# Altium integrated library NSC Interface.IntLib: 504 symbols (part 12 of 16)
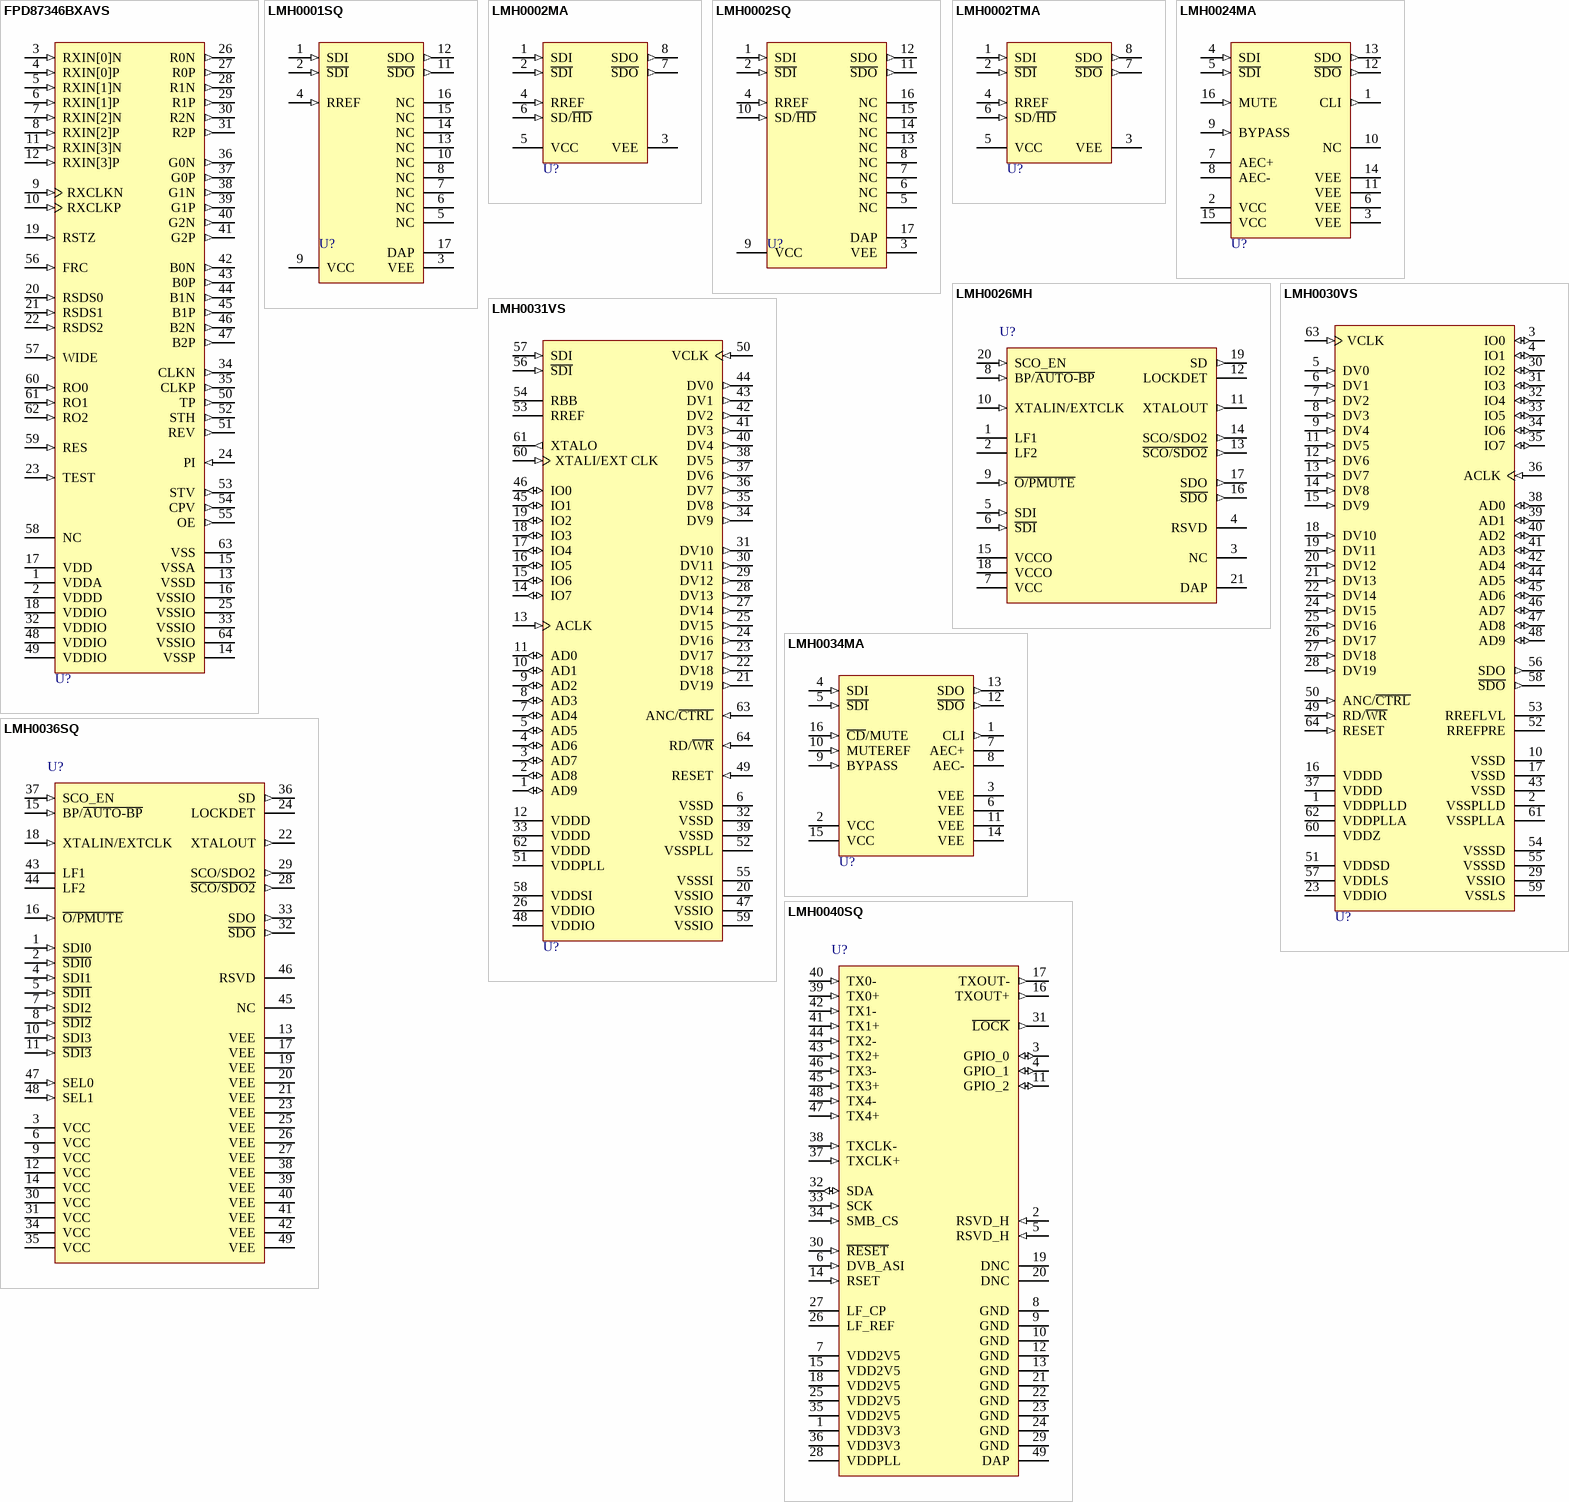
[diagram p52: symbols FPD87346BXAVS to LMH0040SQ]

## LMH0034MA
designator U?
LMH0034 SMPTE 292M / 259M Adaptive Cable Equalizer; PartNumber: LMH0034MA; Manufacturer: National Semiconductor; CompType: Interface IC; PackageTopMarking: NSUZXYTT*L034; PowerWise: N; Published: 4-Dec-2008; DatasheetVersion: Jun-2007; PackageVersion: revJ, Aug-1995; PackageReference: M16A; Publisher: Altium Limited; PackageDescription: Molded Package, S.O., .150in Wide, 16 Lead; RoHS: O; PinCount: 16; DigiKeyPartNumber: LMH0034MA-ND; Code_JEDEC: MS-012-AC; Code_IPC: SOIC127P600-16; ComponentLink1Description: LMH0034 Datasheet; ComponentLink1URL: http://www.national.com/ds/LM/LMH0034.pdf; ComponentLink2Description: LMH0034 Web Page; ComponentLink2URL: http://www.national.com/pf/LM/LMH0034.html; ComponentLink3Description: M16A Package Page; ComponentLink3URL: http://www.national.com/packaging/folders/m16a.html
footprint M16A_N (SOIC, 16-Leads, Body 9.9x3.9mm, Pitch 1.27mm, IPC Medium Density)
footprint M16A_L (SOIC, 16-Leads, Body 9.9x3.9mm, Pitch 1.27mm, IPC High Density)
footprint M16A_M (SOIC, 16-Leads, Body 9.9x3.9mm, Pitch 1.27mm, IPC Low Density)
pins: 1 CLI (out), 2 VCC (power), 3 VEE (power), 4 SDI (in), 5 ~{SDI} (in), 6 VEE (power), 7 AEC+, 8 AEC-, 9 BYPASS (in), 10 MUTEREF (in), 11 VEE (power), 12 ~{SDO} (out), 13 SDO (out), 14 VEE (power), 15 VCC (power), 16 ~{CD}/MUTE (in)

## LMH0036SQ
designator U?
SD SDI Reclocker with 4:1 Input Multiplexer; PartNumber: LMH0036SQ; Manufacturer: National Semiconductor; CompType: Interface IC; PackageTopMarking: NS*UZXYTT*XL036; PowerWise: N; Published: 4-Dec-2008; DatasheetVersion: Aug-2008; PackageVersion: revA, May-2003; PackageReference: SQA48A; Publisher: Altium Limited; RoHS: Y; PinCount: 48; Code_JEDEC: MO-220-WKKD-2; ComponentLink1Description: LMH0036 Datasheet; ComponentLink1URL: http://www.national.com/ds/LM/LMH0036.pdf; ComponentLink2Description: LMH0036 Web Page; ComponentLink2URL: http://www.national.com/pf/LM/LMH0036.html; ComponentLink3Description: SQA48A Package Page; ComponentLink3URL: http://www.national.com/packaging/folders/sqa48a.html
footprint SQA48A (QFN, 48-Leads, Body 7x7mm, Pitch 0.5mm, NSC Recommended)
pins: 1 SDI0 (in), 2 ~{SDI0} (in), 3 VCC (power), 4 SDI1 (in), 5 ~{SDI1} (in), 6 VCC (power), 7 SDI2 (in), 8 ~{SDI2} (in), 9 VCC (power), 10 SDI3 (in), 11 ~{SDI3} (in), 12 VCC (power), 13 VEE (power), 14 VCC (power), 15 BP/~{AUTO-BP} (in), 16 ~{O/PMUTE} (in), 17 VEE (power), 18 XTALIN/EXTCLK (in), 19 VEE (power), 20 VEE (power), 21 VEE (power), 22 XTALOUT (out), 23 VEE (power), 24 LOCKDET, 25 VEE (power), 26 VEE (power), 27 VEE (power), 28 ~{SCO/SDO2} (out), 29 SCO/SDO2 (out), 30 VCC (power), 31 VCC (power), 32 ~{SDO} (out), 33 SDO (out), 34 VCC (power), 35 VCC (power), 36 SD (out), 37 SCO_EN (in), 38 VEE (power), 39 VEE (power), 40 VEE (power), 41 VEE (power), 42 VEE (power), 43 LF1, 44 LF2, 45 NC, 46 RSVD, 47 SEL0 (in), 48 SEL1 (in), 49 VEE (power)

## LMH0040SQ
designator U?
HD, SD, DVB-ASI SDI Serializer and Driver with LVDS Interface; PartNumber: LMH0040SQ; Manufacturer: National Semiconductor; CompType: Interface IC; PackageTopMarking: NS*UZXYTT*LMH0040; PowerWise: N; Published: 4-Dec-2008; DatasheetVersion: Oct-2008; PackageVersion: revA, May-2003; PackageReference: SQA48A; Publisher: Altium Limited; RoHS: Y; PinCount: 48; DigiKeyPartNumber: LMH0040SQ-ND; Code_JEDEC: MO-220-WKKD-2; ComponentLink1Description: LMH0040 Datasheet; ComponentLink1URL: http://www.national.com/ds/LM/LMH0040.pdf; ComponentLink2Description: LMH0040 Web Page; ComponentLink2URL: http://www.national.com/pf/LM/LMH0040.html; ComponentLink3Description: SQA48A Package Page; ComponentLink3URL: http://www.national.com/packaging/folders/sqa48a.html
footprint SQA48A (QFN, 48-Leads, Body 7x7mm, Pitch 0.5mm, NSC Recommended)
pins: 1 VDD3V3 (power), 2 RSVD_H (in), 3 GPIO_0 (io), 4 GPIO_1 (io), 5 RSVD_H (in), 6 DVB_ASI (in), 7 VDD2V5 (power), 8 GND (power), 9 GND (power), 10 GND (power), 11 GPIO_2 (io), 12 GND (power), 13 GND (power), 14 RSET (in), 15 VDD2V5 (power), 16 TXOUT+ (out), 17 TXOUT- (out), 18 VDD2V5 (power), 19 DNC, 20 DNC, 21 GND (power), 22 GND (power), 23 GND (power), 24 GND (power), 25 VDD2V5 (power), 26 LF_REF, 27 LF_CP, 28 VDDPLL (power), 29 GND (power), 30 ~{RESET} (in), 31 ~{LOCK} (out), 32 SDA (io), 33 SCK (in), 34 SMB_CS (in), 35 VDD2V5 (power), 36 VDD3V3 (power), 37 TXCLK+ (in), 38 TXCLK- (in), 39 TX0+ (in), 40 TX0- (in), 41 TX1+ (in), 42 TX1- (in), 43 TX2+ (in), 44 TX2- (in), 45 TX3+ (in), 46 TX3- (in), 47 TX4+ (in), 48 TX4- (in), 49 DAP (power)

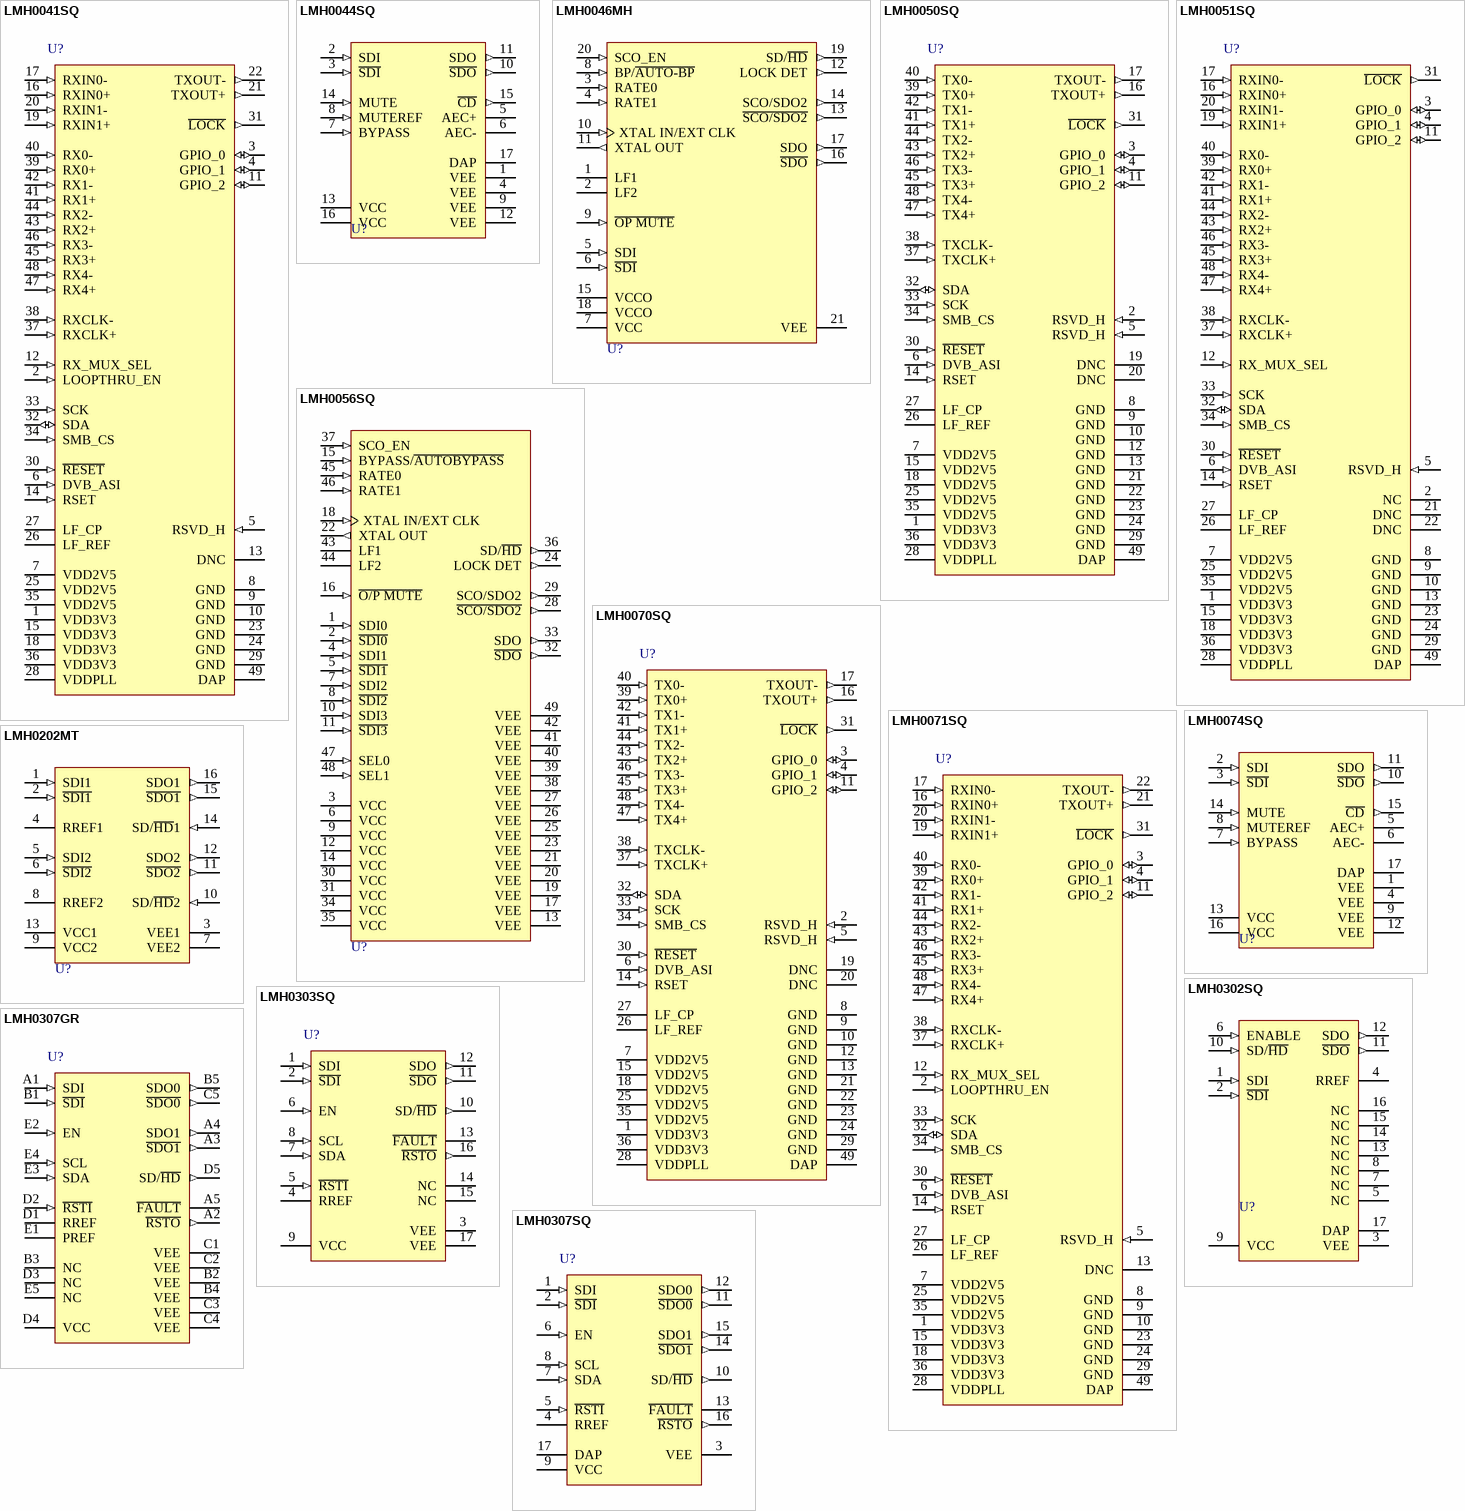
[diagram p30: symbols LMH0041SQ to LMH0307SQ]

## LMH0041SQ
designator U?
HD, SD, DVB-ASI SDI Deserializer with Loopthrough and LVDS Interface; PartNumber: LMH0041SQ; Manufacturer: National Semiconductor; CompType: Interface IC; PackageTopMarking: NS*UZXYTT*LMH0041; PowerWise: N; Published: 4-Dec-2008; DatasheetVersion: Oct-2008; PackageVersion: revA, May-2003; PackageReference: SQA48A; Publisher: Altium Limited; RoHS: Y; PinCount: 48; Code_JEDEC: MO-220-WKKD-2; ComponentLink1Description: LMH0041 Datasheet; ComponentLink1URL: http://www.national.com/ds/LM/LMH0041.pdf; ComponentLink2Description: LMH0041 Web Page; ComponentLink2URL: http://www.national.com/pf/LM/LMH0041.html; ComponentLink3Description: SQA48A Package Page; ComponentLink3URL: http://www.national.com/packaging/folders/sqa48a.html
footprint SQA48A (QFN, 48-Leads, Body 7x7mm, Pitch 0.5mm, NSC Recommended)
pins: 1 VDD3V3 (power), 2 LOOPTHRU_EN (in), 3 GPIO_0 (io), 4 GPIO_1 (io), 5 RSVD_H (in), 6 DVB_ASI (in), 7 VDD2V5 (power), 8 GND (power), 9 GND (power), 10 GND (power), 11 GPIO_2 (io), 12 RX_MUX_SEL (in), 13 DNC, 14 RSET (in), 15 VDD3V3 (power), 16 RXIN0+ (in), 17 RXIN0- (in), 18 VDD3V3 (power), 19 RXIN1+ (in), 20 RXIN1- (in), 21 TXOUT+ (out), 22 TXOUT- (out), 23 GND (power), 24 GND (power), 25 VDD2V5 (power), 26 LF_REF, 27 LF_CP, 28 VDDPLL (power), 29 GND (power), 30 ~{RESET} (in), 31 ~{LOCK} (out), 32 SDA (io), 33 SCK (in), 34 SMB_CS (in), 35 VDD2V5 (power), 36 VDD3V3 (power), 37 RXCLK+ (in), 38 RXCLK- (in), 39 RX0+ (in), 40 RX0- (in), 41 RX1+ (in), 42 RX1- (in), 43 RX2+ (in), 44 RX2- (in), 45 RX3+ (in), 46 RX3- (in), 47 RX4+ (in), 48 RX4- (in), 49 DAP (power)

## LMH0044SQ
designator U?
SMPTE 292M / 259M Adaptive Cable Equalizer; PartNumber: LMH0044SQ; Manufacturer: National Semiconductor; CompType: Interface IC; PackageTopMarking: NS*UZXYTT*L044; PowerWise: N; Published: 4-Dec-2008; DatasheetVersion: Jun-2007; PackageVersion: revA, Dec-2005; PackageReference: SQB16A; Publisher: Altium Limited; PackageDescription: LLP, Plastic, Quad, 4 x 4 x 0.8mm, 16 Lead, 0.65mm Pitch, No Pullback; RoHS: O; PinCount: 16; DigiKeyPartNumber: LMH0044SQTR-ND; ComponentLink1Description: LMH0044 Datasheet; ComponentLink1URL: http://www.national.com/ds/LM/LMH0044.pdf; ComponentLink2Description: LMH0044 Web Page; ComponentLink2URL: http://www.national.com/pf/LM/LMH0044.html; ComponentLink3Description: SQB16A Package Page; ComponentLink3URL: http://www.national.com/packaging/folders/sqb16a.html
footprint SQB16A (QFN, 16-Leads, Body 4x4mm, Pitch 0.65mm, NSC Recommended)
pins: 1 VEE (power), 2 SDI (in), 3 ~{SDI} (in), 4 VEE (power), 5 AEC+, 6 AEC-, 7 BYPASS (in), 8 MUTEREF (in), 9 VEE (power), 10 ~{SDO} (out), 11 SDO (out), 12 VEE (power), 13 VCC (power), 14 MUTE (in), 15 ~{CD} (out), 16 VCC (power), 17 DAP (power)

## LMH0046MH
designator U?
HD/SD SDI Reclocker with Dual Differential Outputs; PartNumber: LMH0046MH; Manufacturer: National Semiconductor; CompType: Interface IC; PackageTopMarking: NSUZXYTT*L046; PowerWise: N; Published: 4-Dec-2008; DatasheetVersion: Apr-2007; PackageVersion: revC, Jul-2006; PackageReference: MXA20A; Publisher: Altium Limited; PackageDescription: Molded TSSOP, Jedec, 6.5 x 4.4 x 0.9mm Body, 20 Lead, 0.65mm Pitch, Exposed Pad; RoHS: Y; PinCount: 20; DigiKeyPartNumber: LMH0046MH-ND; Code_JEDEC: MO-153-ACT; ComponentLink1Description: LMH0046 Datasheet; ComponentLink1URL: http://www.national.com/ds/LM/LMH0046.pdf; ComponentLink2Description: LMH0046 Web Page; ComponentLink2URL: http://www.national.com/pf/LM/LMH0046.html; ComponentLink3Description: MXA20A Package Page; ComponentLink3URL: http://www.national.com/packaging/folders/mxa20a.html
footprint MXA20A_N (TSOP, 20-Leads, Body 6.5x4.4mm, Pitch 0.65mm, Exposed Pad, IPC Medium Density)
footprint MXA20A_L (TSOP, 20-Leads, Body 6.5x4.4mm, Pitch 0.65mm, Exposed Pad, IPC High Density)
footprint MXA20A_M (TSOP, 20-Leads, Body 6.5x4.4mm, Pitch 0.65mm, Exposed Pad, IPC Low Density)
pins: 1 LF1, 2 LF2, 3 RATE0 (in), 4 RATE1 (in), 5 SDI (in), 6 ~{SDI} (in), 7 VCC (power), 8 BP/~{AUTO-BP} (in), 9 ~{OP MUTE} (in), 10 XTAL IN/EXT CLK (in), 11 XTAL OUT (out), 12 LOCK DET (out), 13 ~{SCO/SDO2} (out), 14 SCO/SDO2 (out), 15 VCCO (power), 16 ~{SDO} (out), 17 SDO (out), 18 VCCO (power), 19 SD/~{HD} (out), 20 SCO_EN (in), 21 VEE (power)

## LMH0050SQ
designator U?
HD, SD, DVB-ASI SDI Serializer with LVDS Interface; PartNumber: LMH0050SQ; Manufacturer: National Semiconductor; CompType: Interface IC; PackageTopMarking: NS*UZXYTT*LMH0050; PowerWise: N; Published: 4-Dec-2008; DatasheetVersion: Oct-2008; PackageVersion: revA, May-2003; PackageReference: SQA48A; Publisher: Altium Limited; RoHS: Y; PinCount: 48; Code_JEDEC: MO-220-WKKD-2; ComponentLink1Description: LMH0050 Datasheet; ComponentLink1URL: http://www.national.com/ds/LM/LMH0050.pdf; ComponentLink2Description: LMH0050 Web Page; ComponentLink2URL: http://www.national.com/pf/LM/LMH0050.html; ComponentLink3Description: SQA48A Package Page; ComponentLink3URL: http://www.national.com/packaging/folders/sqa48a.html
footprint SQA48A (QFN, 48-Leads, Body 7x7mm, Pitch 0.5mm, NSC Recommended)
pins: 1 VDD3V3 (power), 2 RSVD_H (in), 3 GPIO_0 (io), 4 GPIO_1 (io), 5 RSVD_H (in), 6 DVB_ASI (in), 7 VDD2V5 (power), 8 GND (power), 9 GND (power), 10 GND (power), 11 GPIO_2 (io), 12 GND (power), 13 GND (power), 14 RSET (in), 15 VDD2V5 (power), 16 TXOUT+ (out), 17 TXOUT- (out), 18 VDD2V5 (power), 19 DNC, 20 DNC, 21 GND (power), 22 GND (power), 23 GND (power), 24 GND (power), 25 VDD2V5 (power), 26 LF_REF, 27 LF_CP, 28 VDDPLL (power), 29 GND (power), 30 ~{RESET} (in), 31 ~{LOCK} (out), 32 SDA (io), 33 SCK (in), 34 SMB_CS (in), 35 VDD2V5 (power), 36 VDD3V3 (power), 37 TXCLK+ (in), 38 TXCLK- (in), 39 TX0+ (in), 40 TX0- (in), 41 TX1+ (in), 42 TX1- (in), 43 TX2+ (in), 44 TX2- (in), 45 TX3+ (in), 46 TX3- (in), 47 TX4+ (in), 48 TX4- (in), 49 DAP (power)

## LMH0051SQ
designator U?
HD, SD, DVB-ASI SDI Deserializer with LVDS Interface; PartNumber: LMH0051SQ; Manufacturer: National Semiconductor; CompType: Interface IC; PackageTopMarking: NS*UZXYTT*LMH0051; PowerWise: N; Published: 4-Dec-2008; DatasheetVersion: Oct-2008; PackageVersion: revA, May-2003; PackageReference: SQA48A; Publisher: Altium Limited; RoHS: Y; PinCount: 48; DigiKeyPartNumber: LMH0051SQ-ND; Code_JEDEC: MO-220-WKKD-2; ComponentLink1Description: LMH0051 Datasheet; ComponentLink1URL: http://www.national.com/ds/LM/LMH0051.pdf; ComponentLink2Description: LMH0051 Web Page; ComponentLink2URL: http://www.national.com/pf/LM/LMH0051.html; ComponentLink3Description: SQA48A Package Page; ComponentLink3URL: http://www.national.com/packaging/folders/sqa48a.html
footprint SQA48A (QFN, 48-Leads, Body 7x7mm, Pitch 0.5mm, NSC Recommended)
pins: 1 VDD3V3 (power), 2 NC, 3 GPIO_0 (io), 4 GPIO_1 (io), 5 RSVD_H (in), 6 DVB_ASI (in), 7 VDD2V5 (power), 8 GND (power), 9 GND (power), 10 GND (power), 11 GPIO_2 (io), 12 RX_MUX_SEL (in), 13 GND (power), 14 RSET (in), 15 VDD3V3 (power), 16 RXIN0+ (in), 17 RXIN0- (in), 18 VDD3V3 (power), 19 RXIN1+ (in), 20 RXIN1- (in), 21 DNC, 22 DNC, 23 GND (power), 24 GND (power), 25 VDD2V5 (power), 26 LF_REF, 27 LF_CP, 28 VDDPLL (power), 29 GND (power), 30 ~{RESET} (in), 31 ~{LOCK} (out), 32 SDA (io), 33 SCK (in), 34 SMB_CS (in), 35 VDD2V5 (power), 36 VDD3V3 (power), 37 RXCLK+ (in), 38 RXCLK- (in), 39 RX0+ (in), 40 RX0- (in), 41 RX1+ (in), 42 RX1- (in), 43 RX2+ (in), 44 RX2- (in), 45 RX3+ (in), 46 RX3- (in), 47 RX4+ (in), 48 RX4- (in), 49 DAP (power)

## LMH0056SQ
designator U?
HD/SD SDI Reclocker with 4:1 Input Multiplexer; PartNumber: LMH0056SQ; Manufacturer: National Semiconductor; CompType: Interface IC; PackageTopMarking: NS*UZXYTT*L056; PowerWise: N; Published: 4-Dec-2008; DatasheetVersion: Apr-2007; PackageVersion: revA, May-2003; PackageReference: SQA48A; Publisher: Altium Limited; PackageDescription: LLP, Plastic, Quad, 7 x 7 x 0.8mm Body, 48 Lead, 0.5mm Pitch, No Pullback; RoHS: Y; PinCount: 48; DigiKeyPartNumber: LMH0056SQTR-ND; Code_JEDEC: MO-220-WKKD-2; ComponentLink1Description: LMH0056 Datasheet; ComponentLink1URL: http://www.national.com/ds/LM/LMH0056.pdf; ComponentLink2Description: LMH0056 Web Page; ComponentLink2URL: http://www.national.com/pf/LM/LMH0056.html; ComponentLink3Description: SQA48A Package Page; ComponentLink3URL: http://www.national.com/packaging/folders/sqa48a.html
footprint SQA48A (QFN, 48-Leads, Body 7x7mm, Pitch 0.5mm, NSC Recommended)
pins: 1 SDI0 (in), 2 ~{SDI0} (in), 3 VCC (power), 4 SDI1 (in), 5 ~{SDI1} (in), 6 VCC (power), 7 SDI2 (in), 8 ~{SDI2} (in), 9 VCC (power), 10 SDI3 (in), 11 ~{SDI3} (in), 12 VCC (power), 13 VEE (power), 14 VCC (power), 15 BYPASS/~{AUTOBYPASS} (in), 16 ~{O/P MUTE} (in), 17 VEE (power), 18 XTAL IN/EXT CLK (in), 19 VEE (power), 20 VEE (power), 21 VEE (power), 22 XTAL OUT (out), 23 VEE (power), 24 LOCK DET (out), 25 VEE (power), 26 VEE (power), 27 VEE (power), 28 ~{SCO/SDO2} (out), 29 SCO/SDO2 (out), 30 VCC (power), 31 VCC (power), 32 ~{SDO} (out), 33 SDO (out), 34 VCC (power), 35 VCC (power), 36 SD/~{HD} (out), 37 SCO_EN (in), 38 VEE (power), 39 VEE (power), 40 VEE (power), 41 VEE (power), 42 VEE (power), 43 LF1, 44 LF2, 45 RATE0 (in), 46 RATE1 (in), 47 SEL0 (in), 48 SEL1 (in), 49 VEE (power)

## LMH0070SQ
designator U?
SD, DVB-ASI SDI Serializer and Driver with LVDS Interface; PartNumber: LMH0070SQ; Manufacturer: National Semiconductor; CompType: Interface IC; PackageTopMarking: NS*UZXYTT*LMH0070; PowerWise: N; Published: 4-Dec-2008; DatasheetVersion: Oct-2008; PackageVersion: revA, May-2003; PackageReference: SQA48A; Publisher: Altium Limited; RoHS: Y; PinCount: 48; DigiKeyPartNumber: LMH0070SQ-ND; Code_JEDEC: MO-220-WKKD-2; ComponentLink1Description: LMH0070 Datasheet; ComponentLink1URL: http://www.national.com/ds/LM/LMH0070.pdf; ComponentLink2Description: LMH0070 Web Page; ComponentLink2URL: http://www.national.com/pf/LM/LMH0070.html; ComponentLink3Description: SQA48A Package Page; ComponentLink3URL: http://www.national.com/packaging/folders/sqa48a.html
footprint SQA48A (QFN, 48-Leads, Body 7x7mm, Pitch 0.5mm, NSC Recommended)
pins: 1 VDD3V3 (power), 2 RSVD_H (in), 3 GPIO_0 (io), 4 GPIO_1 (io), 5 RSVD_H (in), 6 DVB_ASI (in), 7 VDD2V5 (power), 8 GND (power), 9 GND (power), 10 GND (power), 11 GPIO_2 (io), 12 GND (power), 13 GND (power), 14 RSET (in), 15 VDD2V5 (power), 16 TXOUT+ (out), 17 TXOUT- (out), 18 VDD2V5 (power), 19 DNC, 20 DNC, 21 GND (power), 22 GND (power), 23 GND (power), 24 GND (power), 25 VDD2V5 (power), 26 LF_REF, 27 LF_CP, 28 VDDPLL (power), 29 GND (power), 30 ~{RESET} (in), 31 ~{LOCK} (out), 32 SDA (io), 33 SCK (in), 34 SMB_CS (in), 35 VDD2V5 (power), 36 VDD3V3 (power), 37 TXCLK+ (in), 38 TXCLK- (in), 39 TX0+ (in), 40 TX0- (in), 41 TX1+ (in), 42 TX1- (in), 43 TX2+ (in), 44 TX2- (in), 45 TX3+ (in), 46 TX3- (in), 47 TX4+ (in), 48 TX4- (in), 49 DAP (power)

## LMH0071SQ
designator U?
SD, DVB-ASI SDI Deserializer with Loopthrough and LVDS Interface; PartNumber: LMH0071SQ; Manufacturer: National Semiconductor; CompType: Interface IC; PackageTopMarking: NS*UZXYTT*LMH0071; PowerWise: N; Published: 4-Dec-2008; DatasheetVersion: Oct-2008; PackageVersion: revA, May-2003; PackageReference: SQA48A; Publisher: Altium Limited; RoHS: Y; PinCount: 48; DigiKeyPartNumber: LMH0071SQ-ND; Code_JEDEC: MO-220-WKKD-2; ComponentLink1Description: LMH0071 Datasheet; ComponentLink1URL: http://www.national.com/ds/LM/LMH0071.pdf; ComponentLink2Description: LMH0071 Web Page; ComponentLink2URL: http://www.national.com/pf/LM/LMH0071.html; ComponentLink3Description: SQA48A Package Page; ComponentLink3URL: http://www.national.com/packaging/folders/sqa48a.html
footprint SQA48A (QFN, 48-Leads, Body 7x7mm, Pitch 0.5mm, NSC Recommended)
pins: 1 VDD3V3 (power), 2 LOOPTHRU_EN (in), 3 GPIO_0 (io), 4 GPIO_1 (io), 5 RSVD_H (in), 6 DVB_ASI (in), 7 VDD2V5 (power), 8 GND (power), 9 GND (power), 10 GND (power), 11 GPIO_2 (io), 12 RX_MUX_SEL (in), 13 DNC, 14 RSET (in), 15 VDD3V3 (power), 16 RXIN0+ (in), 17 RXIN0- (in), 18 VDD3V3 (power), 19 RXIN1+ (in), 20 RXIN1- (in), 21 TXOUT+ (out), 22 TXOUT- (out), 23 GND (power), 24 GND (power), 25 VDD2V5 (power), 26 LF_REF, 27 LF_CP, 28 VDDPLL (power), 29 GND (power), 30 ~{RESET} (in), 31 ~{LOCK} (out), 32 SDA (io), 33 SCK (in), 34 SMB_CS (in), 35 VDD2V5 (power), 36 VDD3V3 (power), 37 RXCLK+ (in), 38 RXCLK- (in), 39 RX0+ (in), 40 RX0- (in), 41 RX1+ (in), 42 RX1- (in), 43 RX2+ (in), 44 RX2- (in), 45 RX3+ (in), 46 RX3- (in), 47 RX4+ (in), 48 RX4- (in), 49 DAP (power)

## LMH0074SQ
designator U?
SMPTE 259M / 344M Adaptive Cable Equalizer; PartNumber: LMH0074SQ; Manufacturer: National Semiconductor; CompType: Interface IC; PackageTopMarking: NS*UZXYTT*L074; PowerWise: N; Published: 4-Dec-2008; DatasheetVersion: Dec-2007; PackageVersion: revA, Dec-2005; PackageReference: SQB16A; Publisher: Altium Limited; PackageDescription: LLP, Plastic, Quad, 4 x 4 x 0.8mm, 16 Lead, 0.65mm Pitch, No Pullback; RoHS: Y; PinCount: 16; ComponentLink1Description: LMH0074 Datasheet; ComponentLink1URL: http://www.national.com/ds/LM/LMH0074.pdf; ComponentLink2Description: LMH0074 Web Page; ComponentLink2URL: http://www.national.com/pf/LM/LMH0074.html; ComponentLink3Description: SQB16A Package Page; ComponentLink3URL: http://www.national.com/packaging/folders/sqb16a.html
footprint SQB16A (QFN, 16-Leads, Body 4x4mm, Pitch 0.65mm, NSC Recommended)
pins: 1 VEE (power), 2 SDI (in), 3 ~{SDI} (in), 4 VEE (power), 5 AEC+, 6 AEC-, 7 BYPASS (in), 8 MUTEREF (in), 9 VEE (power), 10 ~{SDO} (out), 11 SDO (out), 12 VEE (power), 13 VCC (power), 14 MUTE (in), 15 ~{CD} (out), 16 VCC (power), 17 DAP (power)

## LMH0202MT
designator U?
LMH0202 SMPTE 292M / 259M Serial Digital Cable Driver; PartNumber: LMH0202MT; Manufacturer: National Semiconductor; CompType: Interface IC; PackageTopMarking: NSUZXYTT*L202; PowerWise: N; Published: 4-Dec-2008; DatasheetVersion: Jun-2006; PackageVersion: revD, Jun-2003; PackageReference: MTC16; Publisher: Altium Limited; PackageDescription: Molded TSSOP, Jedec, 5 x 4.4 x 0.9mm Body, 16 Lead, 0.65mm Pitch; RoHS: Y; PinCount: 16; DigiKeyPartNumber: LMH0202MT-ND; Code_JEDEC: MO-153-AB; ComponentLink1Description: LMH0202 Datasheet; ComponentLink1URL: http://www.national.com/ds/LM/LMH0202.pdf; ComponentLink2Description: LMH0202 Web Page; ComponentLink2URL: http://www.national.com/pf/LM/LMH0202.html; ComponentLink3Description: MTC16 Package Page; ComponentLink3URL: http://www.national.com/packaging/folders/mtc16.html
footprint MTC16_N (TSOP, 16-Leads, Body 5x4.4mm, Pitch 0.65mm, IPC Medium Density)
footprint MTC16_L (TSOP, 16-Leads, Body 5x4.4mm, Pitch 0.65mm, IPC High Density)
footprint MTC16_M (TSOP, 16-Leads, Body 5x4.4mm, Pitch 0.65mm, IPC Low Density)
pins: 1 SDI1 (in), 2 ~{SDI1} (in), 3 VEE1 (power), 4 RREF1, 5 SDI2 (in), 6 ~{SDI2} (in), 7 VEE2 (power), 8 RREF2, 9 VCC2 (power), 10 SD/~{HD}2 (in), 11 ~{SDO2} (out), 12 SDO2 (out), 13 VCC1 (power), 14 SD/~{HD}1 (in), 15 ~{SDO1} (out), 16 SDO1 (out)

## LMH0302SQ
designator U?
3 Gbps HD/SD SDI Cable Driver; PartNumber: LMH0302SQ; Manufacturer: National Semiconductor; CompType: Interface IC; PackageTopMarking: NS*UZXYTT*L0302; PowerWise: N; Published: 4-Dec-2008; DatasheetVersion: Nov-2007; PackageVersion: revA, Dec-2005; PackageReference: SQB16A; Publisher: Altium Limited; PackageDescription: LLP, Plastic, Quad, 4 x 4 x 0.8mm, 16 Lead, 0.65mm Pitch, No Pullback; RoHS: Y; PinCount: 16; ComponentLink1Description: LMH0302 Datasheet; ComponentLink1URL: http://www.national.com/ds/LM/LMH0302.pdf; ComponentLink2Description: LMH0302 Web Page; ComponentLink2URL: http://www.national.com/pf/LM/LMH0302.html; ComponentLink3Description: SQB16A Package Page; ComponentLink3URL: http://www.national.com/packaging/folders/sqb16a.html
footprint SQB16A (QFN, 16-Leads, Body 4x4mm, Pitch 0.65mm, NSC Recommended)
pins: 1 SDI (in), 2 ~{SDI} (in), 3 VEE (power), 4 RREF, 5 NC, 6 ENABLE (in), 7 NC, 8 NC, 9 VCC (power), 10 SD/~{HD} (in), 11 ~{SDO} (out), 12 SDO (out), 13 NC, 14 NC, 15 NC, 16 NC, 17 DAP (power)

## LMH0303SQ
designator U?
3 Gbps HD/SD SDI Cable Driver with Cable Detect; PartNumber: LMH0303SQ; Manufacturer: National Semiconductor; CompType: Interface IC; PackageTopMarking: NS*UZXYTT*L0303; PowerWise: N; Published: 4-Dec-2008; DatasheetVersion: Aug-2008; PackageVersion: revA, Dec-2005; PackageReference: SQB16A; Publisher: Altium Limited; RoHS: Y; PinCount: 16; ComponentLink1Description: LMH0303 Datasheet; ComponentLink1URL: http://www.national.com/ds/LM/LMH0303.pdf; ComponentLink2Description: LMH0303 Web Page; ComponentLink2URL: http://www.national.com/pf/LM/LMH0303.html; ComponentLink3Description: SQB16A Package Page; ComponentLink3URL: http://www.national.com/packaging/folders/sqb16a.html
footprint SQB16A (QFN, 16-Leads, Body 4x4mm, Pitch 0.65mm, NSC Recommended)
pins: 1 SDI (in), 2 ~{SDI} (in), 3 VEE (power), 4 RREF, 5 ~{RSTI} (in), 6 EN (in), 7 SDA (in), 8 SCL (in), 9 VCC (power), 10 SD/~{HD} (out), 11 ~{SDO} (out), 12 SDO (out), 13 ~{FAULT}, 14 NC, 15 NC, 16 ~{RSTO} (out), 17 VEE (power)

## LMH0307GR
designator U?
3 Gbps HD/SD SDI Dual Output Cable Driver with Cable Detect; PartNumber: LMH0307GR; Manufacturer: National Semiconductor; CompType: Interface IC; PackageTopMarking: XYTT*307G; PowerWise: N; Published: 29-May-2009; DatasheetVersion: Jan-2009; PackageVersion: revA, Mar-2004; PackageReference: GRA25A; Publisher: Altium Limited; RoHS: Y; PinCount: 25; ComponentLink1Description: LMH0307 Datasheet; ComponentLink1URL: http://www.national.com/ds/LM/LMH0307.pdf; ComponentLink2Description: LMH0307 Web Page; ComponentLink2URL: http://www.national.com/pf/LM/LMH0307.html; ComponentLink3Description: GRA25A Package Page; ComponentLink3URL: http://www.national.com/packaging/folders/gra25a.html
footprint GRA25A (BGA, 25-Leads, Body 3x3mm, Pitch 0.5mm, NSC Recommended)
pins: A1 SDI (in), A2 ~{RSTO} (out), A3 ~{SDO1} (out), A4 SDO1 (out), A5 ~{FAULT}, B1 ~{SDI} (in), B2 VEE (power), B3 NC, B4 VEE (power), B5 SDO0 (out), C1 VEE (power), C2 VEE (power), C3 VEE (power), C4 VEE (power), C5 ~{SDO0} (out), D1 RREF, D2 ~{RSTI} (in), D3 NC, D4 VCC (power), D5 SD/~{HD} (out), E1 PREF, E2 EN (in), E3 SDA (in), E4 SCL (in), E5 NC

## LMH0307SQ
designator U?
3 Gbps HD/SD SDI Dual Output Cable Driver with Cable Detect; PartNumber: LMH0307SQ; Manufacturer: National Semiconductor; CompType: Interface IC; PackageTopMarking: NS*UZXYTT*L0307; PowerWise: N; Published: 4-Dec-2008; DatasheetVersion: Jan-2009; PackageVersion: revA, Dec-2005; PackageReference: SQB16A; Publisher: Altium Limited; RoHS: Y; PinCount: 16; ComponentLink1Description: LMH0307 Datasheet; ComponentLink1URL: http://www.national.com/ds/LM/LMH0307.pdf; ComponentLink2Description: LMH0307 Web Page; ComponentLink2URL: http://www.national.com/pf/LM/LMH0307.html; ComponentLink3Description: SQB16A Package Page; ComponentLink3URL: http://www.national.com/packaging/folders/sqb16a.html
footprint SQB16A (QFN, 16-Leads, Body 4x4mm, Pitch 0.65mm, NSC Recommended)
pins: 1 SDI (in), 2 ~{SDI} (in), 3 VEE (power), 4 RREF, 5 ~{RSTI} (in), 6 EN (in), 7 SDA (in), 8 SCL (in), 9 VCC (power), 10 SD/~{HD} (out), 11 ~{SDO0} (out), 12 SDO0 (out), 13 ~{FAULT}, 14 ~{SDO1} (out), 15 SDO1 (out), 16 ~{RSTO} (out), 17 DAP (power)

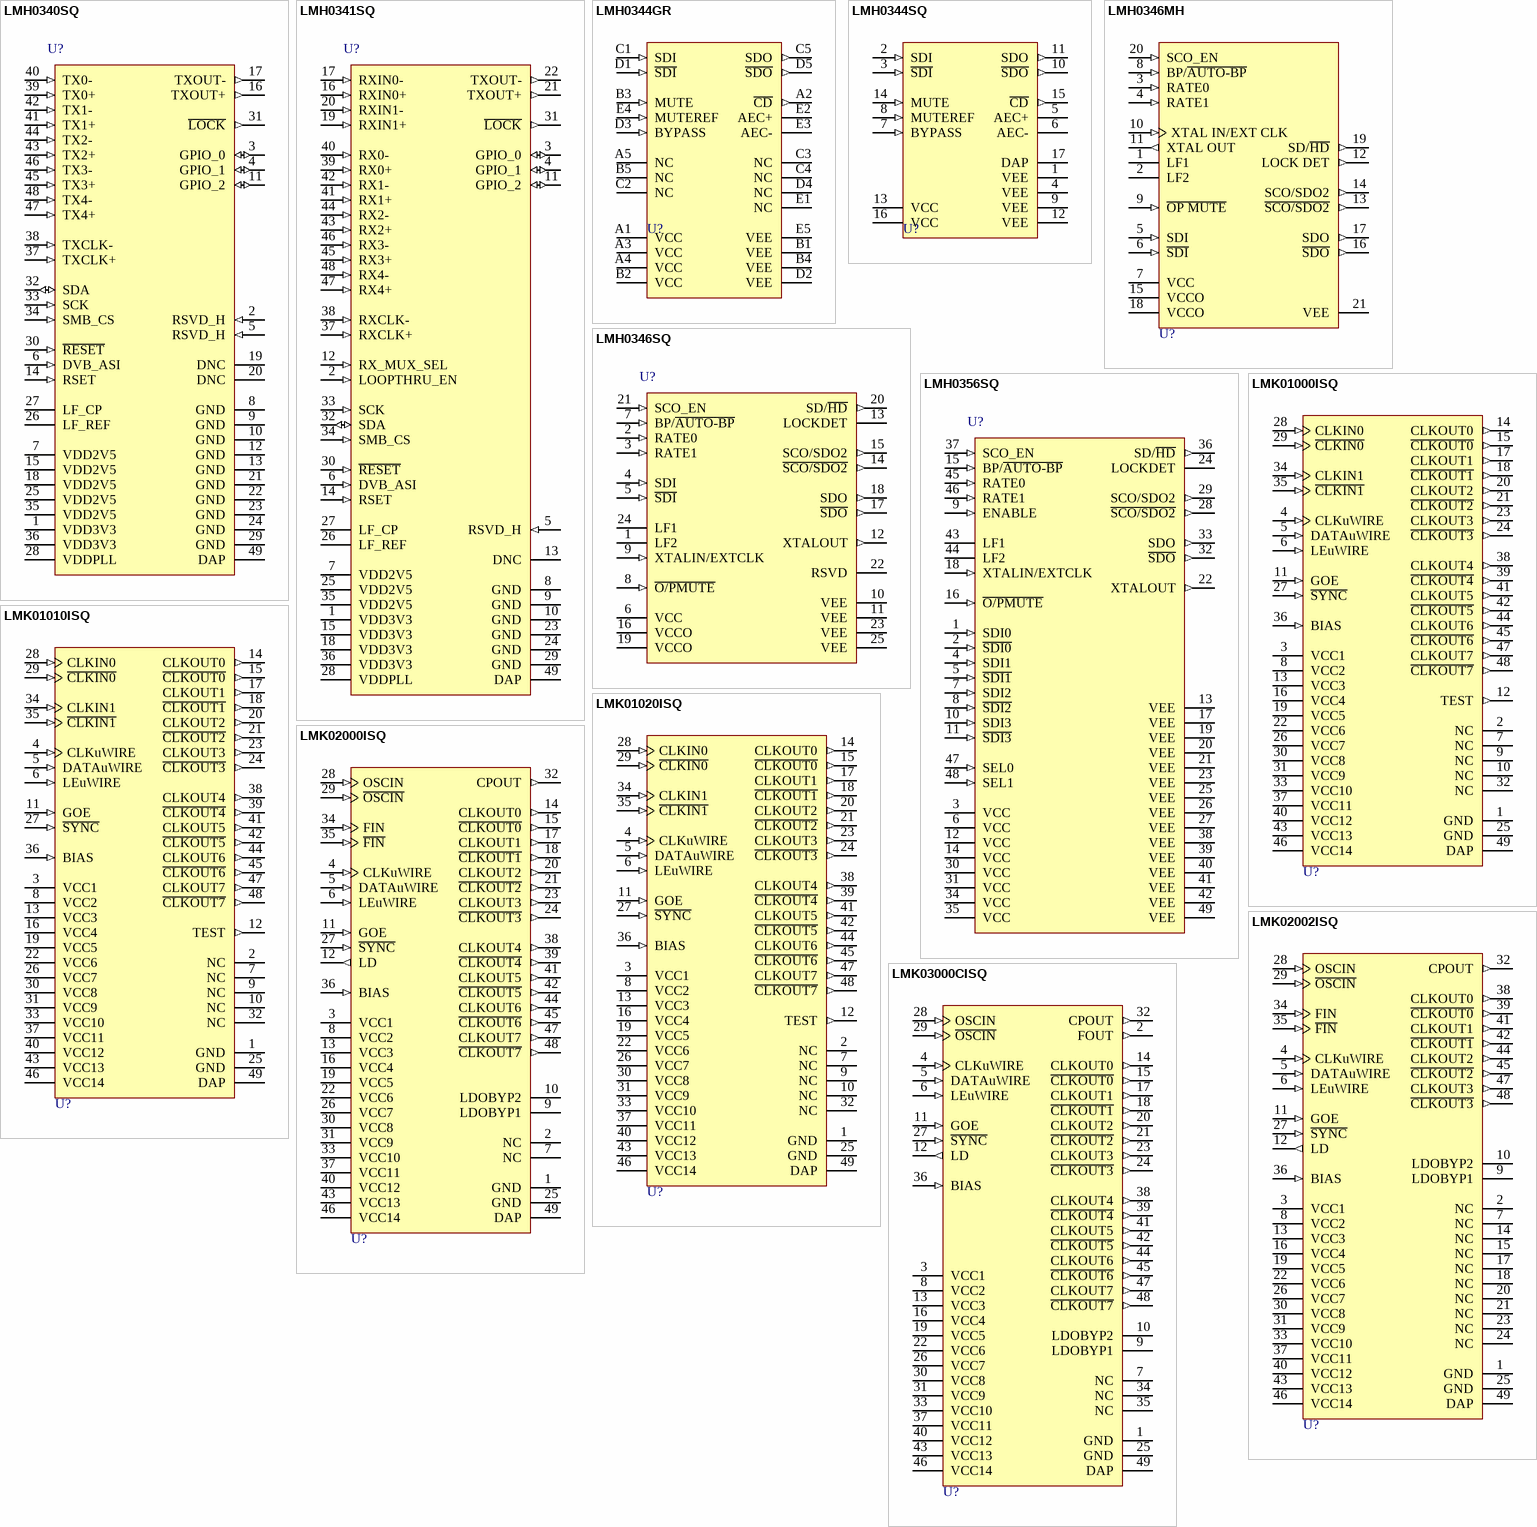
[diagram p31: symbols LMH0340SQ to LMK03000CISQ]

## LMH0340SQ
designator U?
3 Gbps, HD, SD, DVB-ASI SDI Serializer and Driver with LVDS Interface; PartNumber: LMH0340SQ; Manufacturer: National Semiconductor; CompType: Interface IC; PackageTopMarking: NS*UZXYTT*L0340; PowerWise: N; Published: 4-Dec-2008; DatasheetVersion: Oct-2008; PackageVersion: revA, May-2003; PackageReference: SQA48A; Publisher: Altium Limited; RoHS: Y; PinCount: 48; DigiKeyPartNumber: LMH0340SQ-ND; Code_JEDEC: MO-220-WKKD-2; ComponentLink1Description: LMH0340 Datasheet; ComponentLink1URL: http://www.national.com/ds/LM/LMH0340.pdf; ComponentLink2Description: LMH0340 Web Page; ComponentLink2URL: http://www.national.com/pf/LM/LMH0340.html; ComponentLink3Description: SQA48A Package Page; ComponentLink3URL: http://www.national.com/packaging/folders/sqa48a.html
footprint SQA48A (QFN, 48-Leads, Body 7x7mm, Pitch 0.5mm, NSC Recommended)
pins: 1 VDD3V3 (power), 2 RSVD_H (in), 3 GPIO_0 (io), 4 GPIO_1 (io), 5 RSVD_H (in), 6 DVB_ASI (in), 7 VDD2V5 (power), 8 GND (power), 9 GND (power), 10 GND (power), 11 GPIO_2 (io), 12 GND (power), 13 GND (power), 14 RSET (in), 15 VDD2V5 (power), 16 TXOUT+ (out), 17 TXOUT- (out), 18 VDD2V5 (power), 19 DNC, 20 DNC, 21 GND (power), 22 GND (power), 23 GND (power), 24 GND (power), 25 VDD2V5 (power), 26 LF_REF, 27 LF_CP, 28 VDDPLL (power), 29 GND (power), 30 ~{RESET} (in), 31 ~{LOCK} (out), 32 SDA (io), 33 SCK (in), 34 SMB_CS (in), 35 VDD2V5 (power), 36 VDD3V3 (power), 37 TXCLK+ (in), 38 TXCLK- (in), 39 TX0+ (in), 40 TX0- (in), 41 TX1+ (in), 42 TX1- (in), 43 TX2+ (in), 44 TX2- (in), 45 TX3+ (in), 46 TX3- (in), 47 TX4+ (in), 48 TX4- (in), 49 DAP (power)

## LMH0341SQ
designator U?
3 Gbps, HD, SD, DVB-ASI SDI Deserializer with Loopthrough and LVDS Interface; PartNumber: LMH0341SQ; Manufacturer: National Semiconductor; CompType: Interface IC; PackageTopMarking: NS*UZXYTT*L0341; PowerWise: N; Published: 4-Dec-2008; DatasheetVersion: Oct-2008; PackageVersion: revA, May-2003; PackageReference: SQA48A; Publisher: Altium Limited; RoHS: Y; PinCount: 48; DigiKeyPartNumber: LMH0341SQ-ND; Code_JEDEC: MO-220-WKKD-2; ComponentLink1Description: LMH0341 Datasheet; ComponentLink1URL: http://www.national.com/ds/LM/LMH0341.pdf; ComponentLink2Description: LMH0341 Web Page; ComponentLink2URL: http://www.national.com/pf/LM/LMH0341.html; ComponentLink3Description: SQA48A Package Page; ComponentLink3URL: http://www.national.com/packaging/folders/sqa48a.html
footprint SQA48A (QFN, 48-Leads, Body 7x7mm, Pitch 0.5mm, NSC Recommended)
pins: 1 VDD3V3 (power), 2 LOOPTHRU_EN (in), 3 GPIO_0 (io), 4 GPIO_1 (io), 5 RSVD_H (in), 6 DVB_ASI (in), 7 VDD2V5 (power), 8 GND (power), 9 GND (power), 10 GND (power), 11 GPIO_2 (io), 12 RX_MUX_SEL (in), 13 DNC, 14 RSET (in), 15 VDD3V3 (power), 16 RXIN0+ (in), 17 RXIN0- (in), 18 VDD3V3 (power), 19 RXIN1+ (in), 20 RXIN1- (in), 21 TXOUT+ (out), 22 TXOUT- (out), 23 GND (power), 24 GND (power), 25 VDD2V5 (power), 26 LF_REF, 27 LF_CP, 28 VDDPLL (power), 29 GND (power), 30 ~{RESET} (in), 31 ~{LOCK} (out), 32 SDA (io), 33 SCK (in), 34 SMB_CS (in), 35 VDD2V5 (power), 36 VDD3V3 (power), 37 RXCLK+ (in), 38 RXCLK- (in), 39 RX0+ (in), 40 RX0- (in), 41 RX1+ (in), 42 RX1- (in), 43 RX2+ (in), 44 RX2- (in), 45 RX3+ (in), 46 RX3- (in), 47 RX4+ (in), 48 RX4- (in), 49 DAP (power)

## LMH0344GR
designator U?
3 Gbps HD/SD SDI Adaptive Cable Equalizer; PartNumber: LMH0344GR; Manufacturer: National Semiconductor; CompType: Interface IC; PackageTopMarking: XYTT*344G; PowerWise: N; Published: 29-May-2009; DatasheetVersion: Jan-2009; PackageVersion: revA, Mar-2004; PackageReference: GRA25A; Publisher: Altium Limited; RoHS: Y; PinCount: 25; ComponentLink1Description: LMH0344 Datasheet; ComponentLink1URL: http://www.national.com/ds/LM/LMH0344.pdf; ComponentLink2Description: LMH0344 Web Page; ComponentLink2URL: http://www.national.com/pf/LM/LMH0344.html; ComponentLink3Description: GRA25A Package Page; ComponentLink3URL: http://www.national.com/packaging/folders/gra25a.html
footprint GRA25A (BGA, 25-Leads, Body 3x3mm, Pitch 0.5mm, NSC Recommended)
pins: A1 VCC (power), A2 ~{CD} (out), A3 VCC (power), A4 VCC (power), A5 NC, B1 VEE (power), B2 VCC (power), B3 MUTE (in), B4 VEE (power), B5 NC, C1 SDI (in), C2 NC, C3 NC, C4 NC, C5 SDO (out), D1 ~{SDI} (in), D2 VEE (power), D3 BYPASS (in), D4 NC, D5 ~{SDO} (out), E1 NC, E2 AEC+, E3 AEC-, E4 MUTEREF (in), E5 VEE (power)

## LMH0344SQ
designator U?
3 Gbps HD/SD SDI Adaptive Cable Equalizer; PartNumber: LMH0344SQ; Manufacturer: National Semiconductor; CompType: Interface IC; PackageTopMarking: NS*UZXYTT*L0344; PowerWise: N; Published: 4-Dec-2008; DatasheetVersion: Jan-2009; PackageVersion: revA, Dec-2005; PackageReference: SQB16A; Publisher: Altium Limited; PackageDescription: LLP, Plastic, Quad, 4 x 4 x 0.8mm, 16 Lead, 0.65mm Pitch, No Pullback; RoHS: Y; PinCount: 16; DigiKeyPartNumber: SD344EVK-ND; ComponentLink1Description: LMH0344 Datasheet; ComponentLink1URL: http://www.national.com/ds/LM/LMH0344.pdf; ComponentLink2Description: LMH0344 Web Page; ComponentLink2URL: http://www.national.com/pf/LM/LMH0344.html; ComponentLink3Description: SQB16A Package Page; ComponentLink3URL: http://www.national.com/packaging/folders/sqb16a.html
footprint SQB16A (QFN, 16-Leads, Body 4x4mm, Pitch 0.65mm, NSC Recommended)
pins: 1 VEE (power), 2 SDI (in), 3 ~{SDI} (in), 4 VEE (power), 5 AEC+, 6 AEC-, 7 BYPASS (in), 8 MUTEREF (in), 9 VEE (power), 10 ~{SDO} (out), 11 SDO (out), 12 VEE (power), 13 VCC (power), 14 MUTE (in), 15 ~{CD} (out), 16 VCC (power), 17 DAP (power)

## LMH0346MH
designator U?
3 Gbps HD/SD SDI Reclocker with Dual Differential Outputs; PartNumber: LMH0346MH; Manufacturer: National Semiconductor; CompType: Interface IC; PackageTopMarking: NSUZXYTT*L0346; PowerWise: N; Published: 4-Dec-2008; DatasheetVersion: Apr-2008; PackageVersion: revC, Jul-2006; PackageReference: MXA20A; Publisher: Altium Limited; PackageDescription: Molded TSSOP, Jedec, 6.5 x 4.4 x 0.9mm Body, 20 Lead, 0.65mm Pitch, Exposed Pad; RoHS: Y; PinCount: 20; Code_JEDEC: MO-153-ACT; ComponentLink1Description: LMH0346 Datasheet; ComponentLink1URL: http://www.national.com/ds/LM/LMH0346.pdf; ComponentLink2Description: LMH0346 Web Page; ComponentLink2URL: http://www.national.com/pf/LM/LMH0346.html; ComponentLink3Description: MXA20A Package Page; ComponentLink3URL: http://www.national.com/packaging/folders/mxa20a.html
footprint MXA20A_N (TSOP, 20-Leads, Body 6.5x4.4mm, Pitch 0.65mm, Exposed Pad, IPC Medium Density)
footprint MXA20A_L (TSOP, 20-Leads, Body 6.5x4.4mm, Pitch 0.65mm, Exposed Pad, IPC High Density)
footprint MXA20A_M (TSOP, 20-Leads, Body 6.5x4.4mm, Pitch 0.65mm, Exposed Pad, IPC Low Density)
pins: 1 LF1, 2 LF2, 3 RATE0 (in), 4 RATE1 (in), 5 SDI (in), 6 ~{SDI} (in), 7 VCC (power), 8 BP/~{AUTO-BP} (in), 9 ~{OP MUTE} (in), 10 XTAL IN/EXT CLK (in), 11 XTAL OUT (out), 12 LOCK DET (out), 13 ~{SCO/SDO2} (out), 14 SCO/SDO2 (out), 15 VCCO (power), 16 ~{SDO} (out), 17 SDO (out), 18 VCCO (power), 19 SD/~{HD} (out), 20 SCO_EN (in), 21 VEE (power)

## LMH0346SQ
designator U?
3 Gbps HD/SD SDI Reclocker with Dual Differential Outputs; PartNumber: LMH0346SQ; Manufacturer: National Semiconductor; CompType: Interface IC; PackageTopMarking: NS*UZXYTT*L0346SQ; PowerWise: N; Published: 4-Dec-2008; DatasheetVersion: Aug-2008; PackageVersion: revA, Oct-2003; PackageReference: SQA24B; Publisher: Altium Limited; RoHS: Y; PinCount: 24; DigiKeyPartNumber: LMH0346SQ-ND; Code_JEDEC: MO-220-WGHD-1; ComponentLink1Description: LMH0346 Datasheet; ComponentLink1URL: http://www.national.com/ds/LM/LMH0346.pdf; ComponentLink2Description: LMH0346 Web Page; ComponentLink2URL: http://www.national.com/pf/LM/LMH0346.html; ComponentLink3Description: SQA24B Package Page; ComponentLink3URL: http://www.national.com/packaging/folders/sqa24b.html
footprint SQA24B (QFN, 24-Leads, Body 5x4mm, Pitch 0.5mm, NSC Recommended)
pins: 1 LF2, 2 RATE0 (in), 3 RATE1 (in), 4 SDI (in), 5 ~{SDI} (in), 6 VCC (power), 7 BP/~{AUTO-BP} (in), 8 ~{O/PMUTE} (in), 9 XTALIN/EXTCLK (in), 10 VEE (power), 11 VEE (power), 12 XTALOUT (out), 13 LOCKDET, 14 ~{SCO/SDO2} (out), 15 SCO/SDO2 (out), 16 VCCO (power), 17 ~{SDO} (out), 18 SDO (out), 19 VCCO (power), 20 SD/~{HD} (out), 21 SCO_EN (in), 22 RSVD, 23 VEE (power), 24 LF1, 25 VEE (power)

## LMH0356SQ
designator U?
3 Gbps HD/SD SDI Reclocker with 4:1 Input Mux and FR4 EQs; PartNumber: LMH0356SQ; Manufacturer: National Semiconductor; CompType: Interface IC; PackageTopMarking: NS*UZXYTT*L0356; PowerWise: N; Published: 4-Dec-2008; DatasheetVersion: Aug-2008; PackageVersion: revA, May-2003; PackageReference: SQA48A; Publisher: Altium Limited; RoHS: Y; PinCount: 48; DigiKeyPartNumber: LMH0356SQ-ND; Code_JEDEC: MO-220-WKKD-2; ComponentLink1Description: LMH0356 Datasheet; ComponentLink1URL: http://www.national.com/ds/LM/LMH0356.pdf; ComponentLink2Description: LMH0356 Web Page; ComponentLink2URL: http://www.national.com/pf/LM/LMH0356.html; ComponentLink3Description: SQA48A Package Page; ComponentLink3URL: http://www.national.com/packaging/folders/sqa48a.html
footprint SQA48A (QFN, 48-Leads, Body 7x7mm, Pitch 0.5mm, NSC Recommended)
pins: 1 SDI0 (in), 2 ~{SDI0} (in), 3 VCC (power), 4 SDI1 (in), 5 ~{SDI1} (in), 6 VCC (power), 7 SDI2 (in), 8 ~{SDI2} (in), 9 ENABLE (in), 10 SDI3 (in), 11 ~{SDI3} (in), 12 VCC (power), 13 VEE (power), 14 VCC (power), 15 BP/~{AUTO-BP} (in), 16 ~{O/PMUTE} (in), 17 VEE (power), 18 XTALIN/EXTCLK (in), 19 VEE (power), 20 VEE (power), 21 VEE (power), 22 XTALOUT (out), 23 VEE (power), 24 LOCKDET, 25 VEE (power), 26 VEE (power), 27 VEE (power), 28 ~{SCO/SDO2} (out), 29 SCO/SDO2 (out), 30 VCC (power), 31 VCC (power), 32 ~{SDO} (out), 33 SDO (out), 34 VCC (power), 35 VCC (power), 36 SD/~{HD} (out), 37 SCO_EN (in), 38 VEE (power), 39 VEE (power), 40 VEE (power), 41 VEE (power), 42 VEE (power), 43 LF1, 44 LF2, 45 RATE0 (in), 46 RATE1 (in), 47 SEL0 (in), 48 SEL1 (in), 49 VEE (power)

## LMK01000ISQ
designator U?
1.6 GHz High Performance Clock Buffer, Divider, and Distributor; PartNumber: LMK01000ISQ; Manufacturer: National Semiconductor; CompType: Interface IC; PackageTopMarking: NS*UZXYTT*K01000 I; PowerWise: N; Published: 4-Dec-2008; DatasheetVersion: Mar-2008; PackageVersion: revA, May-2003; PackageReference: SQA48A; Publisher: Altium Limited; PackageDescription: LLP, Plastic, Quad, 7 x 7 x 0.8mm Body, 48 Lead, 0.5mm Pitch, No Pullback; RoHS: Y; PinCount: 48; Code_JEDEC: MO-220-WKKD-2; ComponentLink1Description: LMK01000 Datasheet; ComponentLink1URL: http://www.national.com/ds/LM/LMK01000.pdf; ComponentLink2Description: LMK01000 Web Page; ComponentLink2URL: http://www.national.com/pf/LM/LMK01000.html; ComponentLink3Description: SQA48A Package Page; ComponentLink3URL: http://www.national.com/packaging/folders/sqa48a.html
footprint SQA48A (QFN, 48-Leads, Body 7x7mm, Pitch 0.5mm, NSC Recommended)
pins: 1 GND (power), 2 NC, 3 VCC1 (power), 4 CLKuWIRE (in), 5 DATAuWIRE (in), 6 LEuWIRE (in), 7 NC, 8 VCC2 (power), 9 NC, 10 NC, 11 GOE (in), 12 TEST (out), 13 VCC3 (power), 14 CLKOUT0 (out), 15 ~{CLKOUT0} (out), 16 VCC4 (power), 17 CLKOUT1 (out), 18 ~{CLKOUT1} (out), 19 VCC5 (power), 20 CLKOUT2 (out), 21 ~{CLKOUT2} (out), 22 VCC6 (power), 23 CLKOUT3 (out), 24 ~{CLKOUT3} (out), 25 GND (power), 26 VCC7 (power), 27 ~{SYNC} (in), 28 CLKIN0 (in), 29 ~{CLKIN0} (in), 30 VCC8 (power), 31 VCC9 (power), 32 NC, 33 VCC10 (power), 34 CLKIN1 (in), 35 ~{CLKIN1} (in), 36 BIAS (in), 37 VCC11 (power), 38 CLKOUT4 (out), 39 ~{CLKOUT4} (out), 40 VCC12 (power), 41 CLKOUT5 (out), 42 ~{CLKOUT5} (out), 43 VCC13 (power), 44 CLKOUT6 (out), 45 ~{CLKOUT6} (out), 46 VCC14 (power), 47 CLKOUT7 (out), 48 ~{CLKOUT7} (out), 49 DAP (power)

## LMK01010ISQ
designator U?
1.6 GHz High Performance Clock Buffer, Divider, and Distributor; PartNumber: LMK01010ISQ; Manufacturer: National Semiconductor; CompType: Interface IC; PackageTopMarking: NS*UZXYTT*K01010 I; Published: 4-Dec-2008; DatasheetVersion: Mar-2008; PackageVersion: revA, May-2003; PackageReference: SQA48A; Publisher: Altium Limited; PackageDescription: LLP, Plastic, Quad, 7 x 7 x 0.8mm Body, 48 Lead, 0.5mm Pitch, No Pullback; RoHS: Y; PinCount: 48; Code_JEDEC: MO-220-WKKD-2; ComponentLink1Description: LMK01010 Datasheet; ComponentLink1URL: http://www.national.com/ds/LM/LMK01010.pdf; ComponentLink2Description: LMK01010 Web Page; ComponentLink2URL: http://www.national.com/pf/LM/LMK01010.html; ComponentLink3Description: SQA48A Package Page; ComponentLink3URL: http://www.national.com/packaging/folders/sqa48a.html
footprint SQA48A (QFN, 48-Leads, Body 7x7mm, Pitch 0.5mm, NSC Recommended)
pins: 1 GND (power), 2 NC, 3 VCC1 (power), 4 CLKuWIRE (in), 5 DATAuWIRE (in), 6 LEuWIRE (in), 7 NC, 8 VCC2 (power), 9 NC, 10 NC, 11 GOE (in), 12 TEST (out), 13 VCC3 (power), 14 CLKOUT0 (out), 15 ~{CLKOUT0} (out), 16 VCC4 (power), 17 CLKOUT1 (out), 18 ~{CLKOUT1} (out), 19 VCC5 (power), 20 CLKOUT2 (out), 21 ~{CLKOUT2} (out), 22 VCC6 (power), 23 CLKOUT3 (out), 24 ~{CLKOUT3} (out), 25 GND (power), 26 VCC7 (power), 27 ~{SYNC} (in), 28 CLKIN0 (in), 29 ~{CLKIN0} (in), 30 VCC8 (power), 31 VCC9 (power), 32 NC, 33 VCC10 (power), 34 CLKIN1 (in), 35 ~{CLKIN1} (in), 36 BIAS (in), 37 VCC11 (power), 38 CLKOUT4 (out), 39 ~{CLKOUT4} (out), 40 VCC12 (power), 41 CLKOUT5 (out), 42 ~{CLKOUT5} (out), 43 VCC13 (power), 44 CLKOUT6 (out), 45 ~{CLKOUT6} (out), 46 VCC14 (power), 47 CLKOUT7 (out), 48 ~{CLKOUT7} (out), 49 DAP (power)

## LMK01020ISQ
designator U?
1.6 GHz High Performance Clock Buffer, Divider, and Distributor; PartNumber: LMK01020ISQ; Manufacturer: National Semiconductor; CompType: Interface IC; PackageTopMarking: NS*UZXYTT*K01020 I; Published: 4-Dec-2008; DatasheetVersion: Mar-2008; PackageVersion: revA, May-2003; PackageReference: SQA48A; Publisher: Altium Limited; PackageDescription: LLP, Plastic, Quad, 7 x 7 x 0.8mm Body, 48 Lead, 0.5mm Pitch, No Pullback; RoHS: Y; PinCount: 48; Code_JEDEC: MO-220-WKKD-2; ComponentLink1Description: LMK01020 Datasheet; ComponentLink1URL: http://www.national.com/ds/LM/LMK01020.pdf; ComponentLink2Description: LMK01020 Web Page; ComponentLink2URL: http://www.national.com/pf/LM/LMK01020.html; ComponentLink3Description: SQA48A Package Page; ComponentLink3URL: http://www.national.com/packaging/folders/sqa48a.html
footprint SQA48A (QFN, 48-Leads, Body 7x7mm, Pitch 0.5mm, NSC Recommended)
pins: 1 GND (power), 2 NC, 3 VCC1 (power), 4 CLKuWIRE (in), 5 DATAuWIRE (in), 6 LEuWIRE (in), 7 NC, 8 VCC2 (power), 9 NC, 10 NC, 11 GOE (in), 12 TEST (out), 13 VCC3 (power), 14 CLKOUT0 (out), 15 ~{CLKOUT0} (out), 16 VCC4 (power), 17 CLKOUT1 (out), 18 ~{CLKOUT1} (out), 19 VCC5 (power), 20 CLKOUT2 (out), 21 ~{CLKOUT2} (out), 22 VCC6 (power), 23 CLKOUT3 (out), 24 ~{CLKOUT3} (out), 25 GND (power), 26 VCC7 (power), 27 ~{SYNC} (in), 28 CLKIN0 (in), 29 ~{CLKIN0} (in), 30 VCC8 (power), 31 VCC9 (power), 32 NC, 33 VCC10 (power), 34 CLKIN1 (in), 35 ~{CLKIN1} (in), 36 BIAS (in), 37 VCC11 (power), 38 CLKOUT4 (out), 39 ~{CLKOUT4} (out), 40 VCC12 (power), 41 CLKOUT5 (out), 42 ~{CLKOUT5} (out), 43 VCC13 (power), 44 CLKOUT6 (out), 45 ~{CLKOUT6} (out), 46 VCC14 (power), 47 CLKOUT7 (out), 48 ~{CLKOUT7} (out), 49 DAP (power)

## LMK02000ISQ
designator U?
Precision Clock Distributor with Integrated PLL; PartNumber: LMK02000ISQ; Manufacturer: National Semiconductor; CompType: Interface IC; PackageTopMarking: NS*UZXYTT*K02000 I; PowerWise: Y; Published: 4-Dec-2008; DatasheetVersion: Sep-2007; PackageVersion: revA, May-2003; PackageReference: SQA48A; Publisher: Altium Limited; PackageDescription: LLP, Plastic, Quad, 7 x 7 x 0.8mm Body, 48 Lead, 0.5mm Pitch, No Pullback; RoHS: Y; PinCount: 48; DigiKeyPartNumber: LMK02000ISQTR-ND; Code_JEDEC: MO-220-WKKD-2; ComponentLink1Description: LMK02000 Datasheet; ComponentLink1URL: http://www.national.com/ds/LM/LMK02000.pdf; ComponentLink2Description: LMK02000 Web Page; ComponentLink2URL: http://www.national.com/pf/LM/LMK02000.html; ComponentLink3Description: SQA48A Package Page; ComponentLink3URL: http://www.national.com/packaging/folders/sqa48a.html
footprint SQA48A (QFN, 48-Leads, Body 7x7mm, Pitch 0.5mm, NSC Recommended)
pins: 1 GND (power), 2 NC, 3 VCC1 (power), 4 CLKuWIRE (in), 5 DATAuWIRE (in), 6 LEuWIRE (in), 7 NC, 8 VCC2 (power), 9 LDOBYP1, 10 LDOBYP2, 11 GOE (in), 12 LD (out), 13 VCC3 (power), 14 CLKOUT0 (out), 15 ~{CLKOUT0} (out), 16 VCC4 (power), 17 CLKOUT1 (out), 18 ~{CLKOUT1} (out), 19 VCC5 (power), 20 CLKOUT2 (out), 21 ~{CLKOUT2} (out), 22 VCC6 (power), 23 CLKOUT3 (out), 24 ~{CLKOUT3} (out), 25 GND (power), 26 VCC7 (power), 27 ~{SYNC} (in), 28 OSCIN (in), 29 ~{OSCIN} (in), 30 VCC8 (power), 31 VCC9 (power), 32 CPOUT (out), 33 VCC10 (power), 34 FIN (in), 35 ~{FIN} (in), 36 BIAS (in), 37 VCC11 (power), 38 CLKOUT4 (out), 39 ~{CLKOUT4} (out), 40 VCC12 (power), 41 CLKOUT5 (out), 42 ~{CLKOUT5} (out), 43 VCC13 (power), 44 CLKOUT6 (out), 45 ~{CLKOUT6} (out), 46 VCC14 (power), 47 CLKOUT7 (out), 48 ~{CLKOUT7} (out), 49 DAP (power)

## LMK02002ISQ
designator U?
Precision Clock Distributor with Integrated PLL; PartNumber: LMK02002ISQ; Manufacturer: National Semiconductor; CompType: Interface IC; PackageTopMarking: NS*UZXYTT*K02002 I; PowerWise: Y; Published: 4-Dec-2008; DatasheetVersion: Aug-2007; PackageVersion: revA, May-2003; PackageReference: SQA48A; Publisher: Altium Limited; PackageDescription: LLP, Plastic, Quad, 7 x 7 x 0.8mm Body, 48 Lead, 0.5mm Pitch, No Pullback; RoHS: Y; PinCount: 48; DigiKeyPartNumber: LMK02002ISQTR-ND; Code_JEDEC: MO-220-WKKD-2; ComponentLink1Description: LMK02002 Datasheet; ComponentLink1URL: http://www.national.com/ds/LM/LMK02002.pdf; ComponentLink2Description: LMK02002 Web Page; ComponentLink2URL: http://www.national.com/pf/LM/LMK02002.html; ComponentLink3Description: SQA48A Package Page; ComponentLink3URL: http://www.national.com/packaging/folders/sqa48a.html
footprint SQA48A (QFN, 48-Leads, Body 7x7mm, Pitch 0.5mm, NSC Recommended)
pins: 1 GND (power), 2 NC, 3 VCC1 (power), 4 CLKuWIRE (in), 5 DATAuWIRE (in), 6 LEuWIRE (in), 7 NC, 8 VCC2 (power), 9 LDOBYP1, 10 LDOBYP2, 11 GOE (in), 12 LD (out), 13 VCC3 (power), 14 NC, 15 NC, 16 VCC4 (power), 17 NC, 18 NC, 19 VCC5 (power), 20 NC, 21 NC, 22 VCC6 (power), 23 NC, 24 NC, 25 GND (power), 26 VCC7 (power), 27 ~{SYNC} (in), 28 OSCIN (in), 29 ~{OSCIN} (in), 30 VCC8 (power), 31 VCC9 (power), 32 CPOUT (out), 33 VCC10 (power), 34 FIN (in), 35 ~{FIN} (in), 36 BIAS (in), 37 VCC11 (power), 38 CLKOUT0 (out), 39 ~{CLKOUT0} (out), 40 VCC12 (power), 41 CLKOUT1 (out), 42 ~{CLKOUT1} (out), 43 VCC13 (power), 44 CLKOUT2 (out), 45 ~{CLKOUT2} (out), 46 VCC14 (power), 47 CLKOUT3 (out), 48 ~{CLKOUT3} (out), 49 DAP (power)

## LMK03000CISQ
designator U?
Precision Clock Conditioner with Integrated VCO; PartNumber: LMK03000CISQ; Manufacturer: National Semiconductor; CompType: Interface IC; PackageTopMarking: NS*UZXYTT*K03000CI; PowerWise: Y; Published: 4-Dec-2008; DatasheetVersion: Mar-2008; PackageVersion: revA, May-2003; PackageReference: SQA48A; Publisher: Altium Limited; PackageDescription: LLP, Plastic, Quad, 7 x 7 x 0.8mm Body, 48 Lead, 0.5mm Pitch, No Pullback; RoHS: Y; PinCount: 48; DigiKeyPartNumber: LMK03000CISQTR-ND; Code_JEDEC: MO-220-WKKD-2; ComponentLink1Description: LMK03000C Datasheet; ComponentLink1URL: http://www.national.com/ds/LM/LMK03000C.pdf; ComponentLink2Description: LMK03000C Web Page; ComponentLink2URL: http://www.national.com/pf/LM/LMK03000C.html; ComponentLink3Description: SQA48A Package Page; ComponentLink3URL: http://www.national.com/packaging/folders/sqa48a.html
footprint SQA48A (QFN, 48-Leads, Body 7x7mm, Pitch 0.5mm, NSC Recommended)
pins: 1 GND (power), 2 FOUT (out), 3 VCC1 (power), 4 CLKuWIRE (in), 5 DATAuWIRE (in), 6 LEuWIRE (in), 7 NC, 8 VCC2 (power), 9 LDOBYP1, 10 LDOBYP2, 11 GOE (in), 12 LD (out), 13 VCC3 (power), 14 CLKOUT0 (out), 15 ~{CLKOUT0} (out), 16 VCC4 (power), 17 CLKOUT1 (out), 18 ~{CLKOUT1} (out), 19 VCC5 (power), 20 CLKOUT2 (out), 21 ~{CLKOUT2} (out), 22 VCC6 (power), 23 CLKOUT3 (out), 24 ~{CLKOUT3} (out), 25 GND (power), 26 VCC7 (power), 27 ~{SYNC} (in), 28 OSCIN (in), 29 ~{OSCIN} (in), 30 VCC8 (power), 31 VCC9 (power), 32 CPOUT (out), 33 VCC10 (power), 34 NC, 35 NC, 36 BIAS (in), 37 VCC11 (power), 38 CLKOUT4 (out), 39 ~{CLKOUT4} (out), 40 VCC12 (power), 41 CLKOUT5 (out), 42 ~{CLKOUT5} (out), 43 VCC13 (power), 44 CLKOUT6 (out), 45 ~{CLKOUT6} (out), 46 VCC14 (power), 47 CLKOUT7 (out), 48 ~{CLKOUT7} (out), 49 DAP (power)

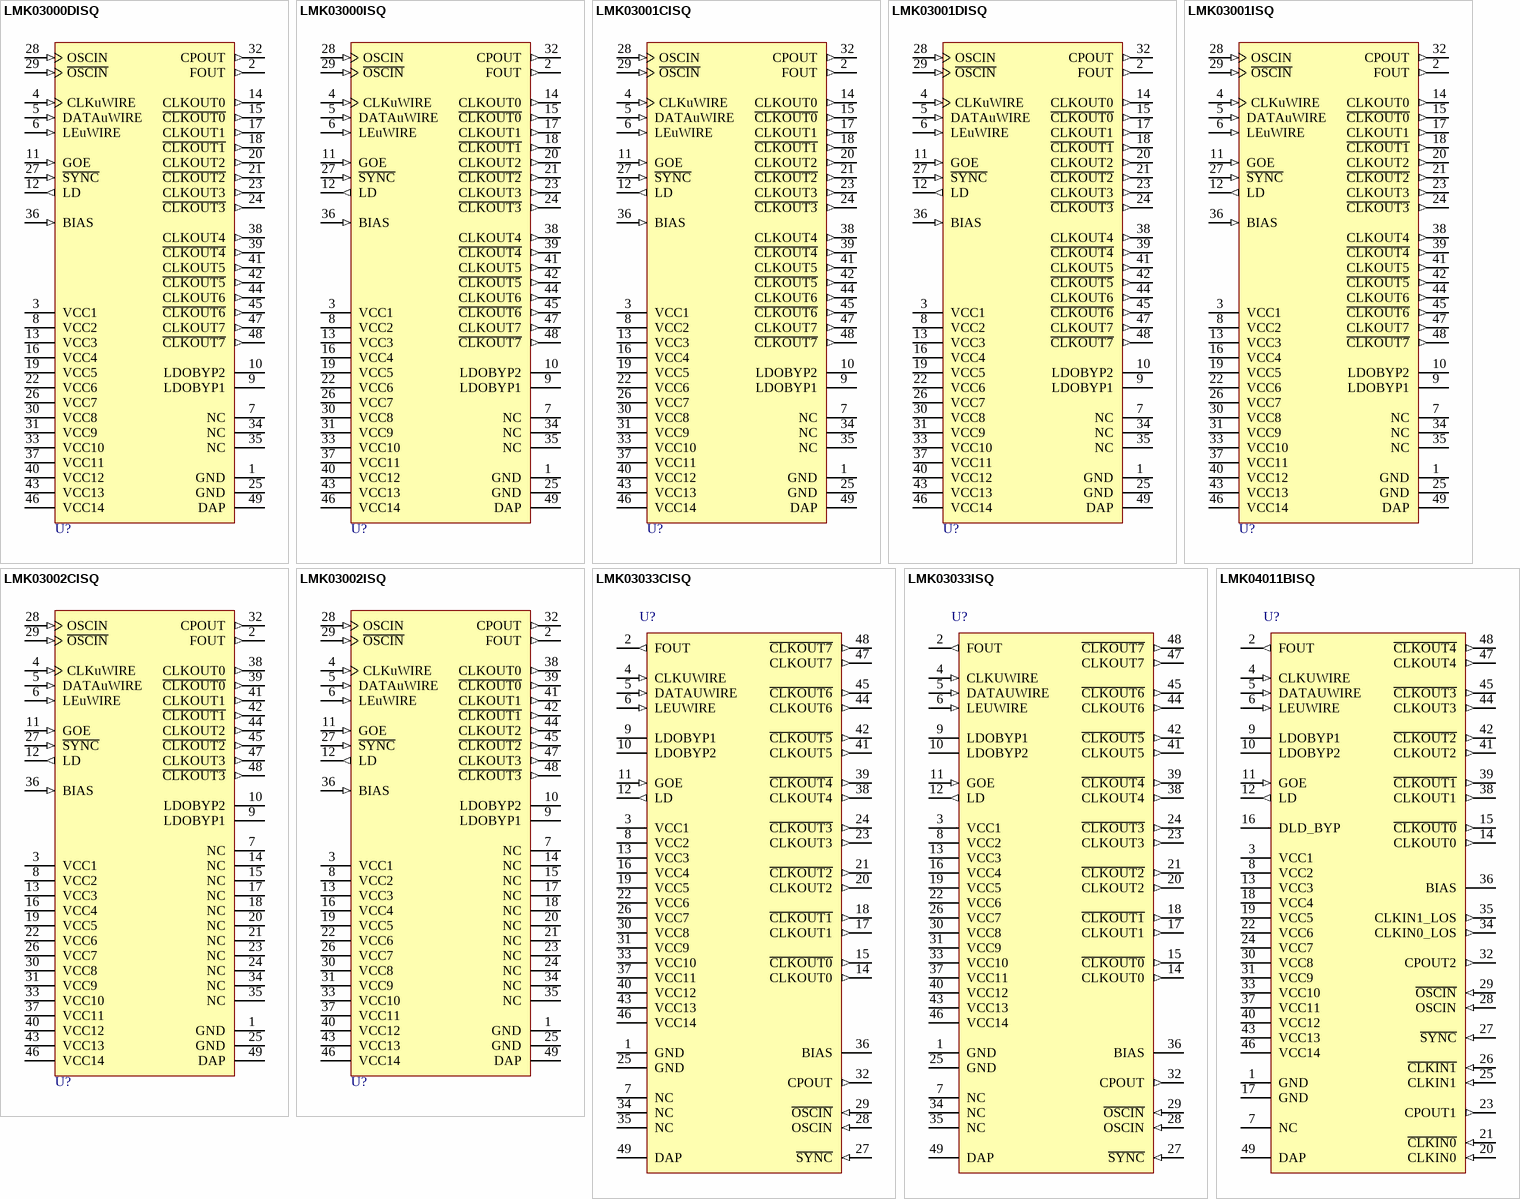
[diagram p32: symbols LMK03000DISQ to LMK04011BISQ]

## LMK03000DISQ
designator U?
Precision Clock Conditioner with Integrated VCO; PartNumber: LMK03000DISQ; Manufacturer: National Semiconductor; CompType: Interface IC; PackageTopMarking: NS*UZXYTT*K03000DI; PowerWise: N; Published: 4-Dec-2008; DatasheetVersion: Mar-2008; PackageVersion: revA, May-2003; PackageReference: SQA48A; Publisher: Altium Limited; PackageDescription: LLP, Plastic, Quad, 7 x 7 x 0.8mm Body, 48 Lead, 0.5mm Pitch, No Pullback; RoHS: Y; PinCount: 48; DigiKeyPartNumber: LMK03000DISQX-ND; Code_JEDEC: MO-220-WKKD-2; ComponentLink1Description: LMK03000 Datasheet; ComponentLink1URL: http://www.national.com/ds/LM/LMK03000D.pdf; ComponentLink2Description: LMK03000 Web Page; ComponentLink2URL: http://www.national.com/pf/LM/LMK03000.html; ComponentLink3Description: SQA48A Package Page; ComponentLink3URL: http://www.national.com/packaging/folders/sqa48a.html
footprint SQA48A (QFN, 48-Leads, Body 7x7mm, Pitch 0.5mm, NSC Recommended)
pins: 1 GND (power), 2 FOUT (out), 3 VCC1 (power), 4 CLKuWIRE (in), 5 DATAuWIRE (in), 6 LEuWIRE (in), 7 NC, 8 VCC2 (power), 9 LDOBYP1, 10 LDOBYP2, 11 GOE (in), 12 LD (out), 13 VCC3 (power), 14 CLKOUT0 (out), 15 ~{CLKOUT0} (out), 16 VCC4 (power), 17 CLKOUT1 (out), 18 ~{CLKOUT1} (out), 19 VCC5 (power), 20 CLKOUT2 (out), 21 ~{CLKOUT2} (out), 22 VCC6 (power), 23 CLKOUT3 (out), 24 ~{CLKOUT3} (out), 25 GND (power), 26 VCC7 (power), 27 ~{SYNC} (in), 28 OSCIN (in), 29 ~{OSCIN} (in), 30 VCC8 (power), 31 VCC9 (power), 32 CPOUT (out), 33 VCC10 (power), 34 NC, 35 NC, 36 BIAS (in), 37 VCC11 (power), 38 CLKOUT4 (out), 39 ~{CLKOUT4} (out), 40 VCC12 (power), 41 CLKOUT5 (out), 42 ~{CLKOUT5} (out), 43 VCC13 (power), 44 CLKOUT6 (out), 45 ~{CLKOUT6} (out), 46 VCC14 (power), 47 CLKOUT7 (out), 48 ~{CLKOUT7} (out), 49 DAP (power)

## LMK03000ISQ
designator U?
Precision Clock Conditioner with Integrated VCO; PartNumber: LMK03000ISQ; Manufacturer: National Semiconductor; CompType: Interface IC; PackageTopMarking: NS*UZXYTT*K03000 I; PowerWise: Y; Published: 4-Dec-2008; DatasheetVersion: Mar-2008; PackageVersion: revA, May-2003; PackageReference: SQA48A; Publisher: Altium Limited; PackageDescription: LLP, Plastic, Quad, 7 x 7 x 0.8mm Body, 48 Lead, 0.5mm Pitch, No Pullback; RoHS: Y; PinCount: 48; DigiKeyPartNumber: LMK03000ISQTR-ND; Code_JEDEC: MO-220-WKKD-2; ComponentLink1Description: LMK03000 Datasheet; ComponentLink1URL: http://www.national.com/ds/LM/LMK03000.pdf; ComponentLink2Description: LMK03000 Web Page; ComponentLink2URL: http://www.national.com/pf/LM/LMK03000.html; ComponentLink3Description: SQA48A Package Page; ComponentLink3URL: http://www.national.com/packaging/folders/sqa48a.html
footprint SQA48A (QFN, 48-Leads, Body 7x7mm, Pitch 0.5mm, NSC Recommended)
pins: 1 GND (power), 2 FOUT (out), 3 VCC1 (power), 4 CLKuWIRE (in), 5 DATAuWIRE (in), 6 LEuWIRE (in), 7 NC, 8 VCC2 (power), 9 LDOBYP1, 10 LDOBYP2, 11 GOE (in), 12 LD (out), 13 VCC3 (power), 14 CLKOUT0 (out), 15 ~{CLKOUT0} (out), 16 VCC4 (power), 17 CLKOUT1 (out), 18 ~{CLKOUT1} (out), 19 VCC5 (power), 20 CLKOUT2 (out), 21 ~{CLKOUT2} (out), 22 VCC6 (power), 23 CLKOUT3 (out), 24 ~{CLKOUT3} (out), 25 GND (power), 26 VCC7 (power), 27 ~{SYNC} (in), 28 OSCIN (in), 29 ~{OSCIN} (in), 30 VCC8 (power), 31 VCC9 (power), 32 CPOUT (out), 33 VCC10 (power), 34 NC, 35 NC, 36 BIAS (in), 37 VCC11 (power), 38 CLKOUT4 (out), 39 ~{CLKOUT4} (out), 40 VCC12 (power), 41 CLKOUT5 (out), 42 ~{CLKOUT5} (out), 43 VCC13 (power), 44 CLKOUT6 (out), 45 ~{CLKOUT6} (out), 46 VCC14 (power), 47 CLKOUT7 (out), 48 ~{CLKOUT7} (out), 49 DAP (power)

## LMK03001CISQ
designator U?
Precision Clock Conditioner with Integrated VCO; PartNumber: LMK03001CISQ; Manufacturer: National Semiconductor; CompType: Interface IC; PackageTopMarking: NS*UZXYTT*K03001CI; PowerWise: Y; Published: 4-Dec-2008; DatasheetVersion: Mar-2008; PackageVersion: revA, May-2003; PackageReference: SQA48A; Publisher: Altium Limited; PackageDescription: LLP, Plastic, Quad, 7 x 7 x 0.8mm Body, 48 Lead, 0.5mm Pitch, No Pullback; RoHS: Y; PinCount: 48; DigiKeyPartNumber: LMK03001CISQTR-ND; Code_JEDEC: MO-220-WKKD-2; ComponentLink1Description: LMK03001C Datasheet; ComponentLink1URL: http://www.national.com/ds/LM/LMK03001C.pdf; ComponentLink2Description: LMK03001C Web Page; ComponentLink2URL: http://www.national.com/pf/LM/LMK03001C.html; ComponentLink3Description: SQA48A Package Page; ComponentLink3URL: http://www.national.com/packaging/folders/sqa48a.html
footprint SQA48A (QFN, 48-Leads, Body 7x7mm, Pitch 0.5mm, NSC Recommended)
pins: 1 GND (power), 2 FOUT (out), 3 VCC1 (power), 4 CLKuWIRE (in), 5 DATAuWIRE (in), 6 LEuWIRE (in), 7 NC, 8 VCC2 (power), 9 LDOBYP1, 10 LDOBYP2, 11 GOE (in), 12 LD (out), 13 VCC3 (power), 14 CLKOUT0 (out), 15 ~{CLKOUT0} (out), 16 VCC4 (power), 17 CLKOUT1 (out), 18 ~{CLKOUT1} (out), 19 VCC5 (power), 20 CLKOUT2 (out), 21 ~{CLKOUT2} (out), 22 VCC6 (power), 23 CLKOUT3 (out), 24 ~{CLKOUT3} (out), 25 GND (power), 26 VCC7 (power), 27 ~{SYNC} (in), 28 OSCIN (in), 29 ~{OSCIN} (in), 30 VCC8 (power), 31 VCC9 (power), 32 CPOUT (out), 33 VCC10 (power), 34 NC, 35 NC, 36 BIAS (in), 37 VCC11 (power), 38 CLKOUT4 (out), 39 ~{CLKOUT4} (out), 40 VCC12 (power), 41 CLKOUT5 (out), 42 ~{CLKOUT5} (out), 43 VCC13 (power), 44 CLKOUT6 (out), 45 ~{CLKOUT6} (out), 46 VCC14 (power), 47 CLKOUT7 (out), 48 ~{CLKOUT7} (out), 49 DAP (power)